# EAGLE library part AS4C4M16SA-6TIN (library AS4C4M16SA-6TIN)
DRAM Chip SDRAM 64M-Bit 4Mx16 3.3V 54-Pin TSOP-II Check prices <https://pricing.snapeda.com/parts/AS4C4M16SA-6TIN/Alliance%20Memory%2C/view-part?ref=eda>
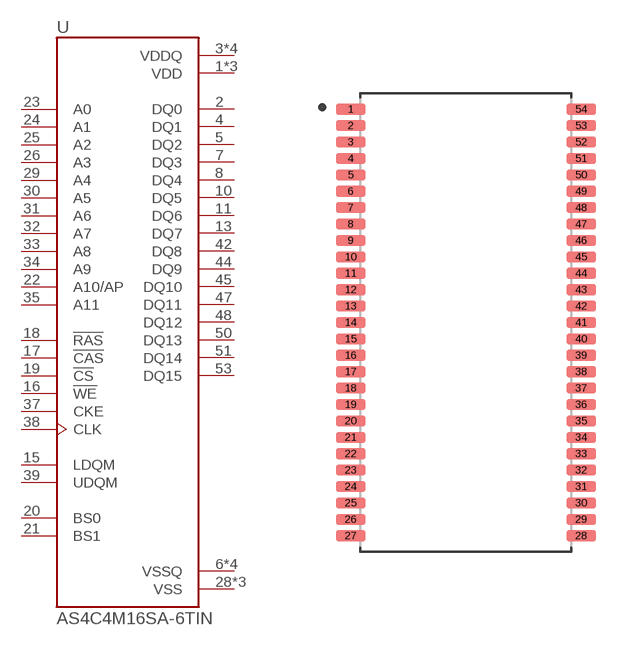
[diagram p0: symbol with the pads of SOP80P1176X120-54N; footprint SOP80P1176X120-54N]

Designator prefix U

## AS4C4M16SA-6TIN (Availability: In Stock; Description: SDRAM Memory IC 64Mb (4M x 16) Parallel 166MHz 5.4ns 54-TSOP II; MF: Alliance Memory,; MP: AS4C4M16SA-6TIN; Package: TSOP-54 Alliance Memory; Price: None)  [SOP80P1176X120-54N]
1  VDD  pwr
2  DQ0
3  VDDQ  pwr
4  DQ1
5  DQ2
6  VSSQ  pwr
7  DQ3
8  DQ4
9  VDDQ  pwr
10  DQ5
11  DQ6
12  VSSQ  pwr
13  DQ7
14  VDD  pwr
15  LDQM  in
16  !WE  in
17  !CAS  in
18  !RAS  in
19  !CS  in
20  BS0  in
21  BS1  in
22  A10/AP  in
23  A0  in
24  A1  in
25  A2  in
26  A3  in
27  VDD  pwr
28  VSS  pwr
29  A4  in
30  A5  in
31  A6  in
32  A7  in
33  A8  in
34  A9  in
35  A11  in
37  CKE  in
38  CLK  in
39  UDQM  in
41  VSS  pwr
42  DQ8
43  VDDQ  pwr
44  DQ9
45  DQ10
46  VSSQ  pwr
47  DQ11
48  DQ12
49  VDDQ  pwr
50  DQ13
51  DQ14
52  VSSQ  pwr
53  DQ15
54  VSS  pwr

## Footprint SOP80P1176X120-54N (pad centres in mm)
TSOP-54
smd 1.44 x 0.55: 1 -5.62,10.4; 2 -5.62,9.6; 3 -5.62,8.8; 4 -5.62,8; 5 -5.62,7.2; 6 -5.62,6.4; 7 -5.62,5.6; 8 -5.62,4.8; 9 -5.62,4; 10 -5.62,3.2; 11 -5.62,2.4; 12 -5.62,1.6; 13 -5.62,0.8; 14 -5.62,0; 15 -5.62,-0.8; 16 -5.62,-1.6; 17 -5.62,-2.4; 18 -5.62,-3.2; 19 -5.62,-4; 20 -5.62,-4.8; 21 -5.62,-5.6; 22 -5.62,-6.4; 23 -5.62,-7.2; 24 -5.62,-8; 25 -5.62,-8.8; 26 -5.62,-9.6; 27 -5.62,-10.4; 28 5.62,-10.4; 29 5.62,-9.6; 30 5.62,-8.8; 31 5.62,-8; 32 5.62,-7.2; 33 5.62,-6.4; 34 5.62,-5.6; 35 5.62,-4.8; 36 5.62,-4; 37 5.62,-3.2; 38 5.62,-2.4; 39 5.62,-1.6; 40 5.62,-0.8; 41 5.62,0; 42 5.62,0.8; 43 5.62,1.6; 44 5.62,2.4; 45 5.62,3.2; 46 5.62,4; 47 5.62,4.8; 48 5.62,5.6; 49 5.62,6.4; 50 5.62,7.2; 51 5.62,8; 52 5.62,8.8; 53 5.62,9.6; 54 5.62,10.4